# Altium footprint library DF40 70Pins.PcbLib: 1 footprints
Each footprint in its own frame and in the unit in brackets; x right, y up, seen from the top. Pads: shape width x height; smd on the part's side, far side on the other; paste and mask are expansions set on the pad; w line width, h text height; cw(c..) or ccw(c..) is an arc to the next point about the centre after c.
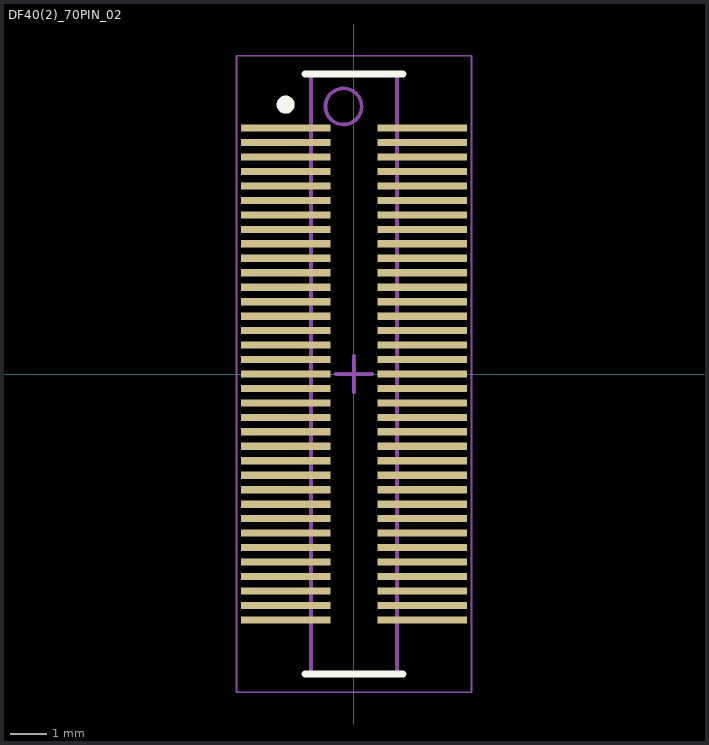
[diagram p0: the footprint, top view; thin cyan lines are the x and y axes]

## DF40(2)_70PIN_02 [mm] "SOICJ127P600-8N, E 3.78-6.26, A 1.95, A1 0.15, E1 2.38, D 16.6, PIN 70, B 0.18-0.22, L 1.24-2.48, e 0.4, S 1.3-1.5, X 0.2, Y 2.48, C 3.78, Rectangular, (mm)"
height 1.95
pads (70):
  rect 2.48x0.2 smd: 1(1.89,6.8) 2(-1.89,6.8) 3(1.89,6.4) 4(-1.89,6.4) 5(1.89,6) 6(-1.89,6) 7(1.89,5.6) 8(-1.89,5.6) 9(1.89,5.2) 10(-1.89,5.2) 11(1.89,4.8) 12(-1.89,4.8) 13(1.89,4.4) 14(-1.89,4.4) 15(1.89,4) 16(-1.89,4) 17(1.89,3.6) 18(-1.89,3.6) 19(1.89,3.2) 20(-1.89,3.2) 21(1.89,2.8) 22(-1.89,2.8) 23(1.89,2.4) 24(-1.89,2.4) 25(1.89,2) 26(-1.89,2) 27(1.89,1.6) 28(-1.89,1.6) 29(1.89,1.2) 30(-1.89,1.2) 31(1.89,0.8) 32(-1.89,0.8) 33(1.89,0.4) 34(-1.89,0.4) 35(1.89,0) 36(-1.89,0) 37(1.89,-0.4) 38(-1.89,-0.4) 39(1.89,-0.8) 40(-1.89,-0.8) 41(1.89,-1.2) 42(-1.89,-1.2) 43(1.89,-1.6) 44(-1.89,-1.6) 45(1.89,-2) 46(-1.89,-2) 47(1.89,-2.4) 48(-1.89,-2.4) 49(1.89,-2.8) 50(-1.89,-2.8) 51(1.89,-3.2) 52(-1.89,-3.2) 53(1.89,-3.6) 54(-1.89,-3.6) 55(1.89,-4) 56(-1.89,-4) 57(1.89,-4.4) 58(-1.89,-4.4) 59(1.89,-4.8) 60(-1.89,-4.8) 61(1.89,-5.2) 62(-1.89,-5.2) 63(1.89,-5.6) 64(-1.89,-5.6) 65(1.89,-6) 66(-1.89,-6) 67(1.89,-6.4) 68(-1.89,-6.4) 69(1.89,-6.8) 70(-1.89,-6.8)
Top Overlay:
  circle w0.25: c-1.89,7.45 r0.125
  lines w0.2: -1.35,-8.3 1.35,-8.3 ; -1.35,8.3 1.35,8.3
Mechanical 13:
  circle w0.1: c-0.29,7.4 r0.5
  lines w0.1: -1.19,-8.3 -1.19,8.3 1.19,8.3 1.19,-8.3 -1.19,-8.3
Mechanical 15:
  lines w0.05: -3.25,-8.8 -3.25,8.8 3.25,8.8 3.25,-8.8 -3.25,-8.8
  lines w0.1: -0.5,0 0.5,0 ; 0,-0.5 0,0.5
3D body: height 1.95, standoff 0.15, extent -1.19,-8.3 1.19,8.3